# Altium footprint library custom-case.PcbLib: 34 footprints (part 2 of 3)
Each footprint in its own frame and in the unit in brackets; x right, y up, seen from the top. Pads: shape width x height; smd on the part's side, far side on the other; paste and mask are expansions set on the pad; w line width, h text height; cw(c..) or ccw(c..) is an arc to the next point about the centre after c.
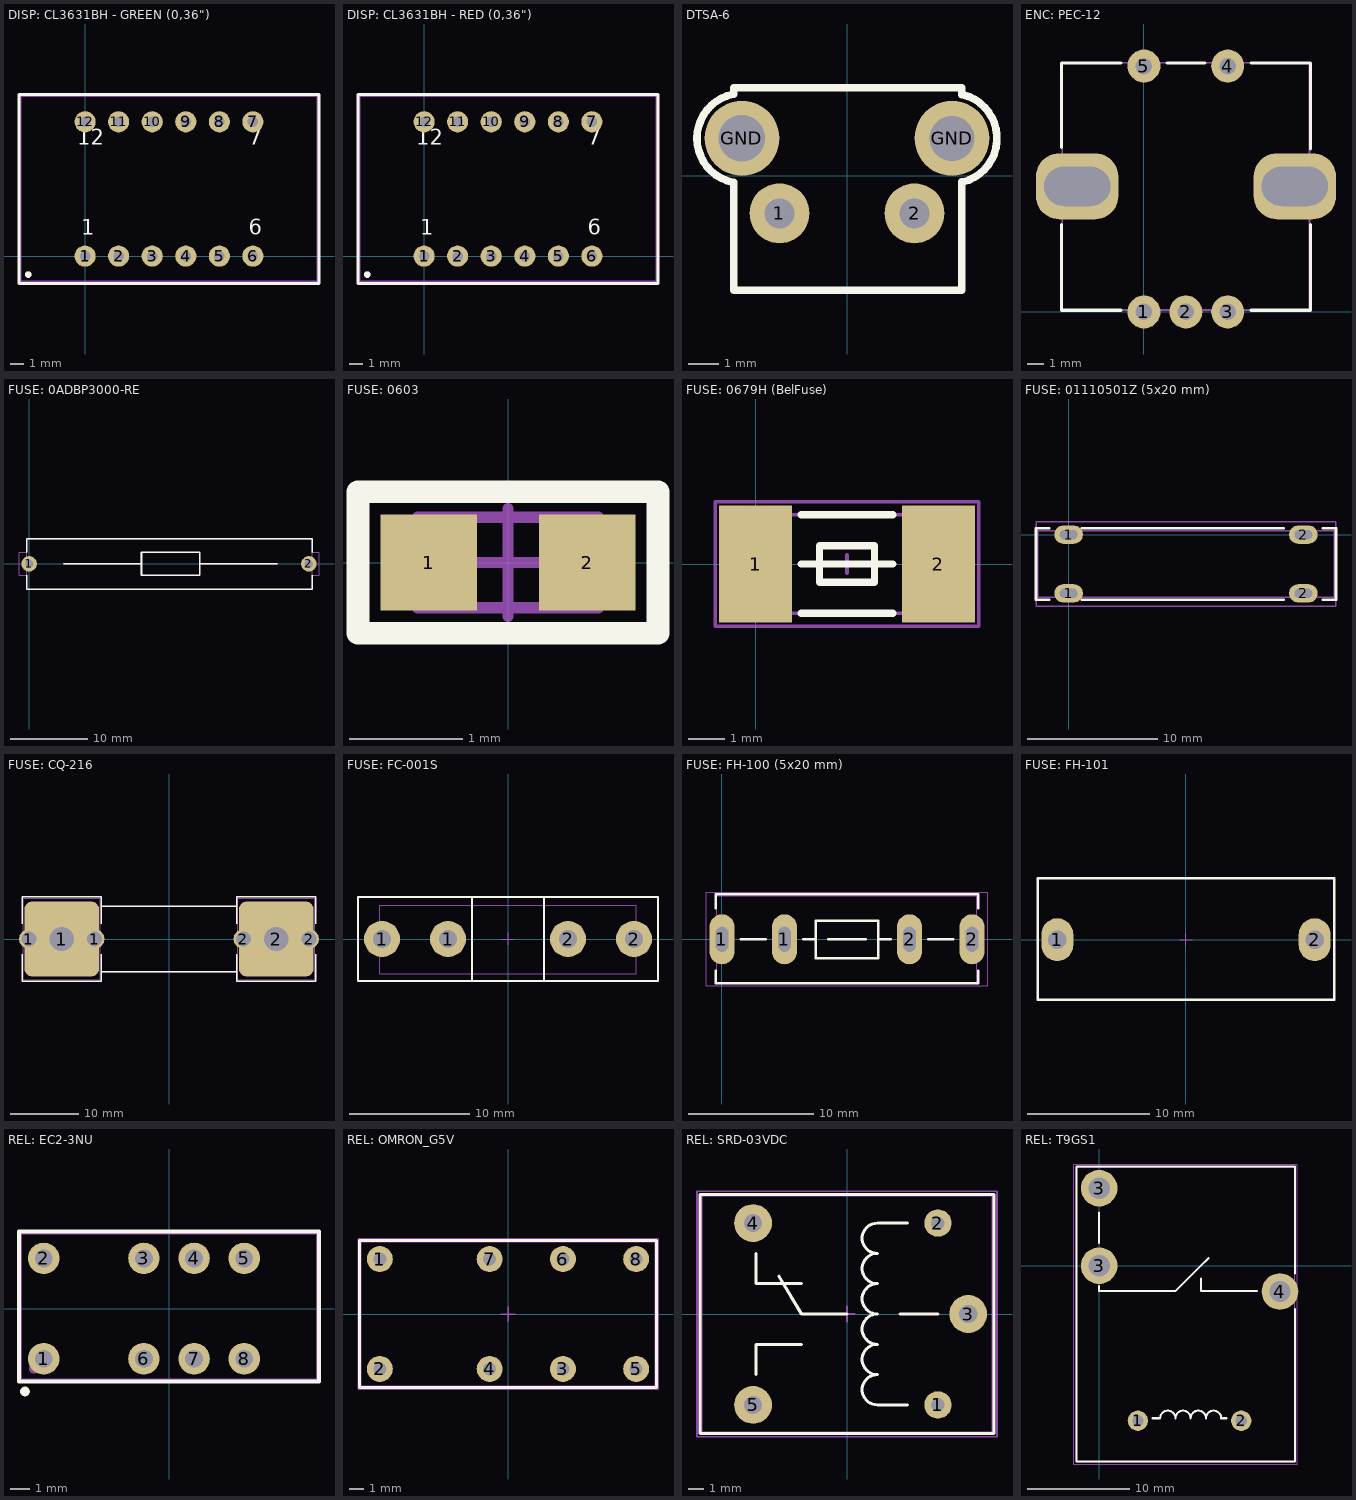
[diagram p1: the footprints below, top view; thin cyan lines are the x and y axes]

## DISP: CL3631BH - GREEN (0,36") [mm]
pads (14):
  round 1.6 hole 0.8: 1(0,0) 2(2.54,0) 3(5.08,0) 4(7.62,0) 5(10.16,0) 6(12.7,0) 7(12.7,10.16) 8(10.16,10.16) 9(7.62,10.16) 10(5.08,10.16) 11(2.54,10.16) 12(0,10.16)
  round 0.5 on Mech1: ""(-4.3,-1.4)
  round 0.5 on Top Overlay: ""(-4.3,-1.4)
Top Overlay:
  lines w0.2: -5,-2.075 -5,12.225 17.7,12.225 17.7,-2.075 -5,-2.075
  text "1" at -0.3,1.2 h2
  text "6" at 12.4,1.2 h2
  text "7" at 12.4,8 h2
  text "12" at -0.6,8 h2
Top Assy:
  lines w0.1: -4.85,-1.92 -4.85,12.08 17.55,12.08 17.55,-1.92 -4.85,-1.92
Size Area:
  lines w0.1: -4.95,-2.025 -4.95,12.175 17.65,12.175 17.65,-2.025 -4.95,-2.025
3D body "User Library-3631_Green_jam.STEP": height 7.1, standoff -5.5, extent -4.85,-1.92 17.55,12.08

## DISP: CL3631BH - RED (0,36") [mm]
pads (14):
  round 1.6 hole 0.8: 1(0,0) 2(2.54,0) 3(5.08,0) 4(7.62,0) 5(10.16,0) 6(12.7,0) 7(12.7,10.16) 8(10.16,10.16) 9(7.62,10.16) 10(5.08,10.16) 11(2.54,10.16) 12(0,10.16)
  round 0.5 on Mech1: ""(-4.3,-1.4)
  round 0.5 on Top Overlay: ""(-4.3,-1.4)
Top Overlay:
  lines w0.2: -5,-2.075 17.7,-2.075 17.7,12.225 -5,12.225 -5,-2.075
  text "12" at -0.6,8 h2
  text "7" at 12.4,8 h2
  text "6" at 12.4,1.2 h2
  text "1" at -0.3,1.2 h2
Top Assy:
  lines w0.1: -4.85,-1.92 17.55,-1.92 17.55,12.08 -4.85,12.08 -4.85,-1.92
Size Area:
  lines w0.1: -4.95,-2.025 17.65,-2.025 17.65,12.175 -4.95,12.175 -4.95,-2.025
3D body "User Library-3631_Red_jam.STEP": height 7.1, standoff -5.5, extent -4.85,-1.92 17.55,12.08

## DTSA-6 [mm] "Button"
pads (4):
  round 2 hole 1: 1(-2.25,-1.25) 2(2.25,-1.25)
  round 2.5 hole 1.55: GND(-3.5,1.25)
  round 2.5 hole 1.5: GND(3.5,1.25)
Top Overlay:
  lines w0.254: -3.812,-0.217 cw(c-3.5,1.25) -3.812,2.717 ; -3.77,-0.217 -3.77,-3.82 3.82,-3.82 ; -3.77,2.717 -3.77,2.94 3.82,2.94 3.82,2.704 ; 3.821,-3.819 3.821,-0.204 ; 3.87,-0.204 ccw(c3.5,1.25) 3.87,2.704
3D body "DTSA-6.SLDPRT": height 7.2, standoff -3.5, extent -4.23,-4.39 4.27,2.76

## ENC: PEC-12 [mm]
pads (7):
  round 2 hole 1: 1(0,0) 2(2.54,0) 3(5.08,0) 4(5.08,14.922) 5(0,14.922)
  rrect70% 5x4 hole 2.4 slot 4 at 0 deg: ""(-4.05,7.625) ""(9.15,7.625)
Top Overlay:
  lines w0.2: -5,5.3 -5,0.1 -1.4,0.1 ; -5,10 -5,15.1 -1.4,15.1 ; 1.4,15.1 3.7,15.1 ; 6.5,0.1 10.1,0.1 10.1,5.3 ; 6.5,15.1 10.1,15.1 10.1,9.9
Top Assy:
  lines w0.1: -4.966,0.12 10.046,0.12 10.046,15.12 -4.966,15.12 -4.966,0.12
3D body "User Library-rotacijski enkoder.STEP": height 16.5, standoff -4.53, extent -4.964,0.12 10.044,15.12

## FUSE: 0ADBP3000-RE [mm]
pads (2):
  round 2 hole 1.1: 1(0,0) 2(36.1,0)
Top Overlay:
  lines w0.2: -0.31,-1.5 -0.31,-3.3 36.51,-3.3 36.51,-1.5 ; -0.31,1.5 -0.31,3.25 36.51,3.25 36.51,1.5 ; 4.5,0 14.5,0 ; 22,0 32,0 ; 14.5,0 14.5,-1.5 22,-1.5 22,1.5 14.5,1.5 14.5,0
Top Assy:
  lines w0.1: 4.5,0 14.5,0 ; 22,0 32,0 ; 14.5,0 14.5,1.5 22,1.5 22,-1.5 14.5,-1.5 14.5,0 ; -0.31,-3.3 -0.31,3.25 36.51,3.25 36.51,-3.3 -0.31,-3.3
Size Area:
  lines w0.1: -1.3,-1.5 -0.31,-1.5 -0.31,-3.3 36.51,-3.3 36.51,-1.5 37.4,-1.5 37.4,1.5 36.51,1.5 36.51,3.25 -0.31,3.25 -0.31,1.5 -1.3,1.5 -1.3,-1.5
3D body "fuse.STEP": height 6.78, standoff -1.8, extent -0.31,-3.3 36.51,3.25

## FUSE: 0603 [mm]
pads (2):
  rect 0.85x0.85 smd: 1(-0.7,0) 2(0.7,0)
Top Overlay:
  lines w0.2: -1.325,-0.625 -1.325,0.625 1.325,0.625 1.325,-0.625 -1.325,-0.625
Top Assy:
  lines w0.1: -0.8,-0.4 -0.8,0.4 0.8,0.4 0.8,-0.4 -0.8,-0.4
Size Area:
  lines w0.1: -0.475,0 0.475,0 ; 0,-0.475 0,0.475 ; -1.325,-0.65 1.325,-0.65 1.325,0.625 -1.325,0.625 -1.325,-0.65
3D body "User Library-MF-FSMF020X_FUSE0603.STEP": height 0.53, standoff 0, extent -0.825,-0.425 0.825,0.425

## FUSE: 0679H (BelFuse) [mm]
pads (2):
  rect 2x3.2 smd mask+0.075: 1(0,0) 2(5,0)
Top Overlay:
  lines w0.2: 1.25,-1.35 3.75,-1.35 ; 1.25,0 3.75,0 ; 1.25,1.35 3.75,1.35 ; 1.75,-0.5 1.75,0.5 3.25,0.5 3.25,-0.5 1.75,-0.5
Top Assy:
  lines w0.1: -0.55,-1.35 -0.55,1.35 5.55,1.35 5.55,-1.35 -0.55,-1.35
Size Area:
  lines w0.1: 2.25,0 2.75,0 ; 2.5,-0.25 2.5,0.25 ; -1.1,-1.7 6.1,-1.7 6.1,1.7 -1.1,1.7 -1.1,-1.7
3D body "User Library-fuse smd.STEP": height 2.69, standoff 0, extent -0.55,-1.35 5.55,1.34

## FUSE: 01110501Z (5x20 mm) [mm]
pads (4):
  oval 2.2x1.4 hole 0.7 slot 1.35 at 0 deg: 1(0,-4.5) 1(0,0) 2(18,-4.5) 2(18,0)
Top Overlay:
  lines w0.2: -1.5,-5 -2.5,-5 -2.5,0.5 -1.5,0.5 ; 1,-5 16.5,-5 ; 1,0.5 16.5,0.5 ; 19.5,-5 20.5,-5 20.5,0.5 19.5,0.5
Top Assy:
  lines w0.1: 20.35,-4.8 -2.35,-4.8 -2.35,0.3 20.35,0.3 ; 20.35,-4.8 20.35,0.3 ; 20.35,-4.8 20.35,-4.8 ; 20.35,0.3 20.35,0.3
Size Area:
  lines w0.1: -2.5,-5.5 20.5,-5.5 20.5,1 -2.5,1 -2.5,-5.5
3D body "User Library-FUSIVEL.STEP": height 8.5, standoff 3.5, extent -1,-4.7 19,0.3
3D body "01110501Z.STEP": height 7.25, standoff -3.1, extent 15.55,-4.8 20.35,0.3
3D body "01110501Z.STEP": height 7.25, standoff -3.1, extent -2.35,-4.8 2.45,0.3

## FUSE: CQ-216 [mm]
pads (6):
  round 2.9 hole 2.2: 1(-20.65,0) 1(-10.95,0) 2(10.95,0) 2(20.65,0)
  rrect20% 11x11 / inner round 5.5 / far side round 5.5 hole 3.6: 1(-15.8,0) 2(15.8,0)
Top Overlay:
  lines w0.2: -21.65,-2.25 -21.65,-6.2 -9.95,-6.2 -9.95,-2.25 ; -21.65,2.25 -21.65,6.2 -9.95,6.2 -9.95,2.25 ; -9.95,-4.8 9.95,-4.8 ; -9.95,4.8 9.95,4.8 ; 9.95,-2.25 9.95,-6.2 21.65,-6.2 21.65,-2.25 ; 9.95,2.25 9.95,6.2 21.65,6.2 21.65,2.25
Mechanical 14:
  lines w0.1: -10.15,-4.8 10.15,-4.8 ; -10.15,4.8 10.15,4.8 ; -21.45,-6 -10.15,-6 -10.15,6 -21.45,6 -21.45,-6 ; 10.15,-6 21.45,-6 21.45,6 10.15,6 10.15,-6
3D body "FUSE_10X38_H_Part2.stp": height 17, standoff 7.3, extent -9,-4.85 9,4.85
3D body "FUSE_10X38_H_Part1.stp": height 17.3, standoff 7, extent -19,-5.15 19,5.15
3D body "FUSH_BUSSMANN_1A3400-09.stp": height 18, standoff -3.8, extent -21.35,-5.948 -10.25,5.948
3D body "FUSH_BUSSMANN_1A3400-09.stp": height 18, standoff -3.8, extent 10.25,-5.948 21.35,5.948

## FUSE: FC-001S [mm]
height 15
pads (4):
  round 3 hole 1.5: 1(-10.5,0) 1(-5,0) 2(5,0) 2(10.5,0)
Top Overlay:
  lines w0.2: -3,-3.5 -3,3.5 ; 3,-3.5 3,3.5 ; -12.5,-3.5 -12.5,3.5 12.5,3.5 12.5,-3.5 -12.5,-3.5
Top Assy:
  lines w0.1: -3,-2.9 -3,2.8 ; 3,-2.9 3,2.8 ; -10.7,-2.9 10.7,-2.9 10.7,2.8 -10.7,2.8 -10.7,-2.9
Size Area:
  lines w0.1: -0.5,0 0.5,0 ; 0,-0.5 0,0.5 ; -12.5,-3.5 -12.5,3.5 12.5,3.5 12.5,-3.5 -12.5,-3.5
3D body "FC-001S.STEP": height 5.5, standoff -2.81, extent -10.7,-2.9 10.7,2.798

## FUSE: FH-100 (5x20 mm) [mm]
pads (4):
  oval 2x4 hole 2 slot 1 at 0 deg: 1(0,0) 1(5,0) 2(15,0) 2(20,0)
Top Overlay:
  lines w0.2: -0.5,-2.5 -0.5,-3.5 20.5,-3.5 20.5,-2.5 ; -0.5,2.5 -0.5,3.6 20.5,3.6 20.5,2.5 ; 1.5,0 3.5,0 ; 6.5,0 7.5,0 ; 8.5,0 11.5,0 ; 12.5,0 13.5,0 ; 16.5,0 18.5,0 ; 7.5,-1.5 12.5,-1.5 12.5,1.5 7.5,1.5 7.5,-1.5
Top Assy:
  lines w0.1: 1.5,0 3.5,0 ; 6.5,0 7.5,0 ; 12.5,0 13.5,0 ; 16.5,0 18.5,0 ; 7.5,0 7.5,-1.5 12.5,-1.5 12.5,1.5 7.5,1.5 7.5,0 ; -0.4,-3.5 20.4,-3.5 20.4,3.5 -0.4,3.5 -0.4,-3.5
Size Area:
  lines w0.1: -1.25,-3.7 21.25,-3.7 21.25,3.75 -1.25,3.75 -1.25,-3.7
3D body "User Library-Clips FH-100 with fuse 5x20.STEP": height 9.99, standoff -3.5, extent -0.4,-3.5 20.4,3.5

## FUSE: FH-101 [mm] "Fuse connector PCB mount"
height 12
pads (2):
  oval 2.6x3.5 hole 1.5: 1(-10.5,0) 2(10.5,0)
Top Overlay:
  lines w0.2: -12.1,-4.9 -12.1,5 12.1,5 12.1,-4.9 -12.1,-4.9
Top Assy:
  lines w0.1: -12.1,-4.9 12.1,-4.9 12.1,5 -12.1,5 -12.1,-4.9
Size Area:
  lines w0.1: -0.5,0 0.5,0 ; 0,-0.5 0,0.5 ; -12.1,-4.9 -12.1,5 12.1,5 12.1,-4.9 -12.1,-4.9
3D body "����_��������������_FH-101.STEP": height 11, standoff -2, extent -12.024,-4.826 11.976,4.974

## REL: EC2-3NU [mm]
pads (10):
  round 1.6 hole 0.9: 1(-6.35,-2.54) 2(-6.35,2.54) 3(-1.27,2.54) 4(1.27,2.54) 5(3.81,2.54) 6(-1.27,-2.54) 7(1.27,-2.54) 8(3.81,-2.54)
  round 0.5 on Top Overlay: ""(-7.3,-4.2)
  round 0.5 on Mech1: ""(-6.85,-3.04)
Top Overlay:
  lines w0.2: -7.6,-3.7 -7.6,3.9 7.6,3.9 7.6,-3.7 -7.6,-3.7
Top Assy:
  lines w0.1: -7.5,-3.59 -7.5,3.81 7.5,3.81 7.5,-3.59 -7.5,-3.59
Size Area:
  lines w0.1: -7.55,-3.64 -7.55,3.86 7.55,3.86 7.55,-3.64 -7.55,-3.64
3D body "User Library-EC2-12.STEP": height 8.2, standoff -3.5, extent -7.5,-3.59 7.5,3.81

## REL: OMRON_G5V [mm] "Omron G5V relay"
height 10
pads (8):
  round 1.8 hole 0.9: 1(-8.89,3.81) 2(-8.89,-3.81) 3(3.81,-3.81) 4(-1.27,-3.81) 5(8.89,-3.81) 6(3.81,3.81) 7(-1.27,3.81) 8(8.89,3.81)
Top Overlay:
  lines w0.2: -10.3,-5.1 -10.3,5.1 10.3,5.1 10.3,-5.1 -10.3,-5.1
Top Assy:
  lines w0.1: -10.2,-5 10.2,-5 10.2,5 -10.2,5 -10.2,-5
Size Area:
  lines w0.1: -0.5,0 0.5,0 ; 0,-0.5 0,0.5 ; -10.4,-5.207 -10.4,5.207 10.4,5.207 10.4,-5.207 -10.4,-5.207
3D body "OMRON G5V-2.step": height 10.92, standoff -4, extent -10.2,-5 10.2,5

## REL: SRD-03VDC [mm]
pads (5):
  round 1.8 hole 0.9: 1(6,-6) 2(6,6)
  round 2.5 hole 1.2: 3(8,0) 4(-6.2,6) 5(-6.2,-6)
Top Overlay:
  lines w0.2: -6,-4 -6,-2 -3,-2 ; -6,4 -6,2 -3,2 ; -4.5,2.5 -3,0 0,0 ; 3.5,0 6,0 ; 4,-6 2,-6 cw(c2,-5) 2,-4 cw(c2,-3) 2,-2 cw(c2,-1) 2,0 cw(c2,1) 2,2 cw(c2,3) 2,4 cw(c2,5) 2,6 4,6 ; -9.7,-7.9 9.7,-7.9 9.7,7.9 -9.7,7.9 -9.7,-7.9
Top Assy:
  lines w0.1: -6,-4 -6,-2 -3,-2 ; -6,4 -6,2 -3,2 ; -4.5,2.5 -3,0 0,0 ; 3.5,0 6,0 ; 4,-6 2,-6 cw(c2,-5) 2,-4 cw(c2,-3) 2,-2 cw(c2,-1) 2,0 cw(c2,1) 2,2 cw(c2,3) 2,4 cw(c2,5) 2,6 4,6 ; -9.6,-7.8 -9.6,7.8 9.6,7.8 9.6,-7.8 -9.6,-7.8
Size Area:
  lines w0.1: -0.5,0 0.5,0 ; 0,-0.5 0,0.5 ; -9.9,-8.1 9.9,-8.1 9.9,8.1 -9.9,8.1 -9.9,-8.1
3D body "6666.STEP": height 15.8, standoff -3, extent -9.6,-7.8 9.6,7.8

## REL: T9GS1 [mm]
pads (5):
  round 2 hole 1.1: 1(3.81,-15.24) 2(13.97,-15.24)
  round 3.6 hole 2.1: 3(0,0) 3(0,7.62) 4(17.78,-2.54)
Top Overlay:
  lines w0.2: 0,-2 0,-2.5 7.5,-2.5 10,0 ; 0,2.25 0,5.25 ; 5.25,-15 6,-15 cw(c6.75,-15) 7.5,-15 cw(c8.25,-15) 9,-15 cw(c9.75,-15) 10.5,-15 cw(c11.25,-15) 12,-15 12.5,-15 ; 10,-1.25 10,-2.5 15.5,-2.5 ; 10.75,0.75 10,0 ; 19.25,-4.25 19.25,-19.25 -2.25,-19.25 -2.25,9.75 19.25,9.75 19.25,-0.75 ; 10,0 10,0
3D model:
  lines w0.1: -2.25,-19.3 -2.25,9.7 19.25,9.7 19.25,-19.3 -2.25,-19.3
Size Area:
  lines w0.1: -2.5,-19.5 19.5,-19.5 19.5,10 -2.5,10 -2.5,-19.5
3D body "T9GS1L14-12.STEP": height 15.7, standoff -3.5, extent -2.25,-19.3 19.25,9.7